# Altium footprint library KE_PDB.PcbLib: 22 footprints (part 2 of 2)
Each footprint in its own frame and in the unit in brackets; x right, y up, seen from the top. Pads: shape width x height; smd on the part's side, far side on the other; paste and mask are expansions set on the pad; w line width, h text height; cw(c..) or ccw(c..) is an arc to the next point about the centre after c.
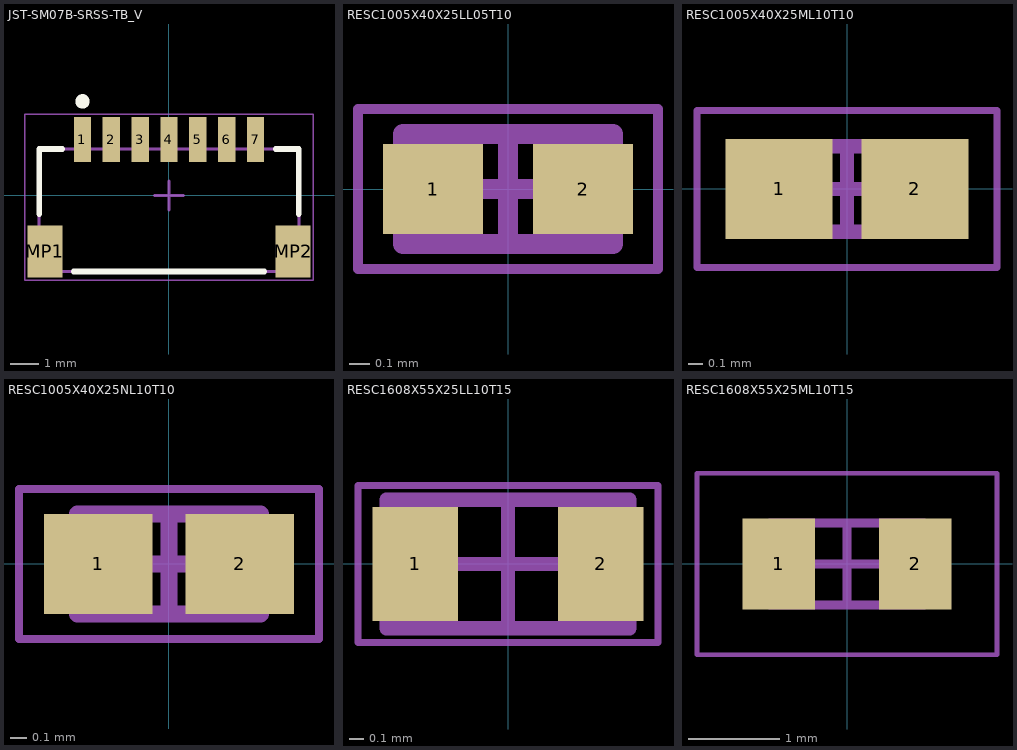
[diagram p1: the footprints below, top view; thin cyan lines are the x and y axes]

## JST-SM07B-SRSS-TB_V [mm] "SMD, 7-Leads, Body 9x4.25mm, Pitch 1mm"
height 2.95
pads (9):
  rect 0.6x1.55 smd: 1(-3,1.938) 2(-2,1.938) 3(-1,1.938) 4(0,1.938) 5(1,1.938) 6(2,1.938) 7(3,1.938)
  rect 1.2x1.8 smd: MP1(-4.3,-1.937) MP2(4.3,-1.937)
Top Overlay:
  circle w0.25: c-3,3.263 r0.125
  lines w0.2: -4.5,-0.637 -4.5,1.613 -3.7,1.613 ; -3.3,-2.638 3.3,-2.638 ; 3.7,1.613 4.5,1.613 4.5,-0.637
Mechanical 13:
  lines w0.1: -4.5,-2.637 4.5,-2.637 4.5,1.613 -4.5,1.613 -4.5,-2.637
Mechanical 15:
  lines w0.05: -5,2.81 -5,-2.937 5,-2.937 5,2.812 -5,2.812
  lines w0.1: -0.5,0 0.5,0 ; 0,-0.5 0,0.5
3D body "SM07B-SRSS-TB.STEP": height 2.96, standoff 0, extent -4.5,-2.637 4.5,2.313

## RESC1005X40X25LL05T10 [mm] "Chip Resistor, 2-Leads, Body 1.00x0.50mm, IPC High Density"
height 0.4
pads (2):
  rect 0.5x0.45 smd: 1(-0.375,0) 2(0.375,0)
Mechanical 13:
  lines w0.1: -0.525,-0.275 0.525,-0.275 0.525,0.275 -0.525,0.275 -0.525,-0.275
Mechanical 15:
  lines w0.05: -0.75,-0.4 0.75,-0.4 0.75,0.4 -0.75,0.4 -0.75,-0.4
  lines w0.1: -0.275,0 0.275,0 ; 0,-0.275 0,0.275
3D body: height 0.4, standoff 0, extent 0.275,-0.275 0.525,0.275
3D body: height 0.4, standoff 0, extent -0.525,-0.275 -0.275,0.275
3D body: height 0.4, standoff 0, extent -0.275,-0.275 0.275,0.275

## RESC1005X40X25ML10T10 [mm] "Chip Resistor, 2-Leads, Body 1.00x0.50mm, IPC Low Density"
height 0.4
pads (2):
  rect 0.75x0.7 smd: 1(-0.475,0) 2(0.475,0)
Mechanical 13:
  lines w0.1: -0.55,-0.3 0.55,-0.3 0.55,0.3 -0.55,0.3 -0.55,-0.3
Mechanical 15:
  lines w0.05: -1.05,-0.55 1.05,-0.55 1.05,0.55 -1.05,0.55 -1.05,-0.55
  lines w0.1: -0.3,0 0.3,0 ; 0,-0.3 0,0.3
3D body: height 0.4, standoff 0, extent 0.3,-0.3 0.55,0.3
3D body: height 0.4, standoff 0, extent -0.55,-0.3 -0.3,0.3
3D body: height 0.4, standoff 0, extent -0.3,-0.3 0.3,0.3

## RESC1005X40X25NL10T10 [mm] "Chip Resistor, 2-Leads, Body 1.00x0.50mm, IPC Medium Density"
height 0.4
pads (2):
  rect 0.65x0.6 smd: 1(-0.425,0) 2(0.425,0)
Mechanical 13:
  lines w0.1: -0.55,-0.3 0.55,-0.3 0.55,0.3 -0.55,0.3 -0.55,-0.3
Mechanical 15:
  lines w0.05: -0.9,-0.45 0.9,-0.45 0.9,0.45 -0.9,0.45 -0.9,-0.45
  lines w0.1: -0.3,0 0.3,0 ; 0,-0.3 0,0.3
3D body: height 0.4, standoff 0, extent 0.3,-0.3 0.55,0.3
3D body: height 0.4, standoff 0, extent -0.55,-0.3 -0.3,0.3
3D body: height 0.4, standoff 0, extent -0.3,-0.3 0.3,0.3

## RESC1608X55X25LL10T15 [mm] "Chip Resistor, 2-Leads, Body 1.60x0.80mm, IPC High Density"
height 0.55
pads (2):
  rect 0.6x0.8 smd: 1(-0.65,0) 2(0.65,0)
Mechanical 13:
  lines w0.1: -0.85,-0.45 0.85,-0.45 0.85,0.45 -0.85,0.45 -0.85,-0.45
Mechanical 15:
  lines w0.05: -1.05,-0.55 1.05,-0.55 1.05,0.55 -1.05,0.55 -1.05,-0.55
  lines w0.1: -0.45,0 0.45,0 ; 0,-0.45 0,0.45
3D body: height 0.55, standoff 0, extent 0.6,-0.45 0.85,0.45
3D body: height 0.55, standoff 0, extent -0.85,-0.45 -0.6,0.45
3D body: height 0.55, standoff 0, extent -0.6,-0.45 0.6,0.45

## RESC1608X55X25ML10T15 [mm] "Chip Resistor, 2-Leads, Body 1.60x0.80mm, IPC Low Density"
height 0.55
pads (2):
  rect 0.8x1 smd: 1(-0.75,0) 2(0.75,0)
Mechanical 13:
  lines w0.1: -0.85,-0.45 0.85,-0.45 0.85,0.45 -0.85,0.45 -0.85,-0.45
Mechanical 15:
  lines w0.05: -1.65,-1 1.65,-1 1.65,1 -1.65,1 -1.65,-1
  lines w0.1: -0.45,0 0.45,0 ; 0,-0.45 0,0.45
3D body: height 0.55, standoff 0, extent 0.6,-0.45 0.85,0.45
3D body: height 0.55, standoff 0, extent -0.85,-0.45 -0.6,0.45
3D body: height 0.55, standoff 0, extent -0.6,-0.45 0.6,0.45